# Altium integrated library NSC Converter Data Acquisition System.IntLib: 13 symbols
Pins are listed as number, name and electrical type; pins without a type are passive.

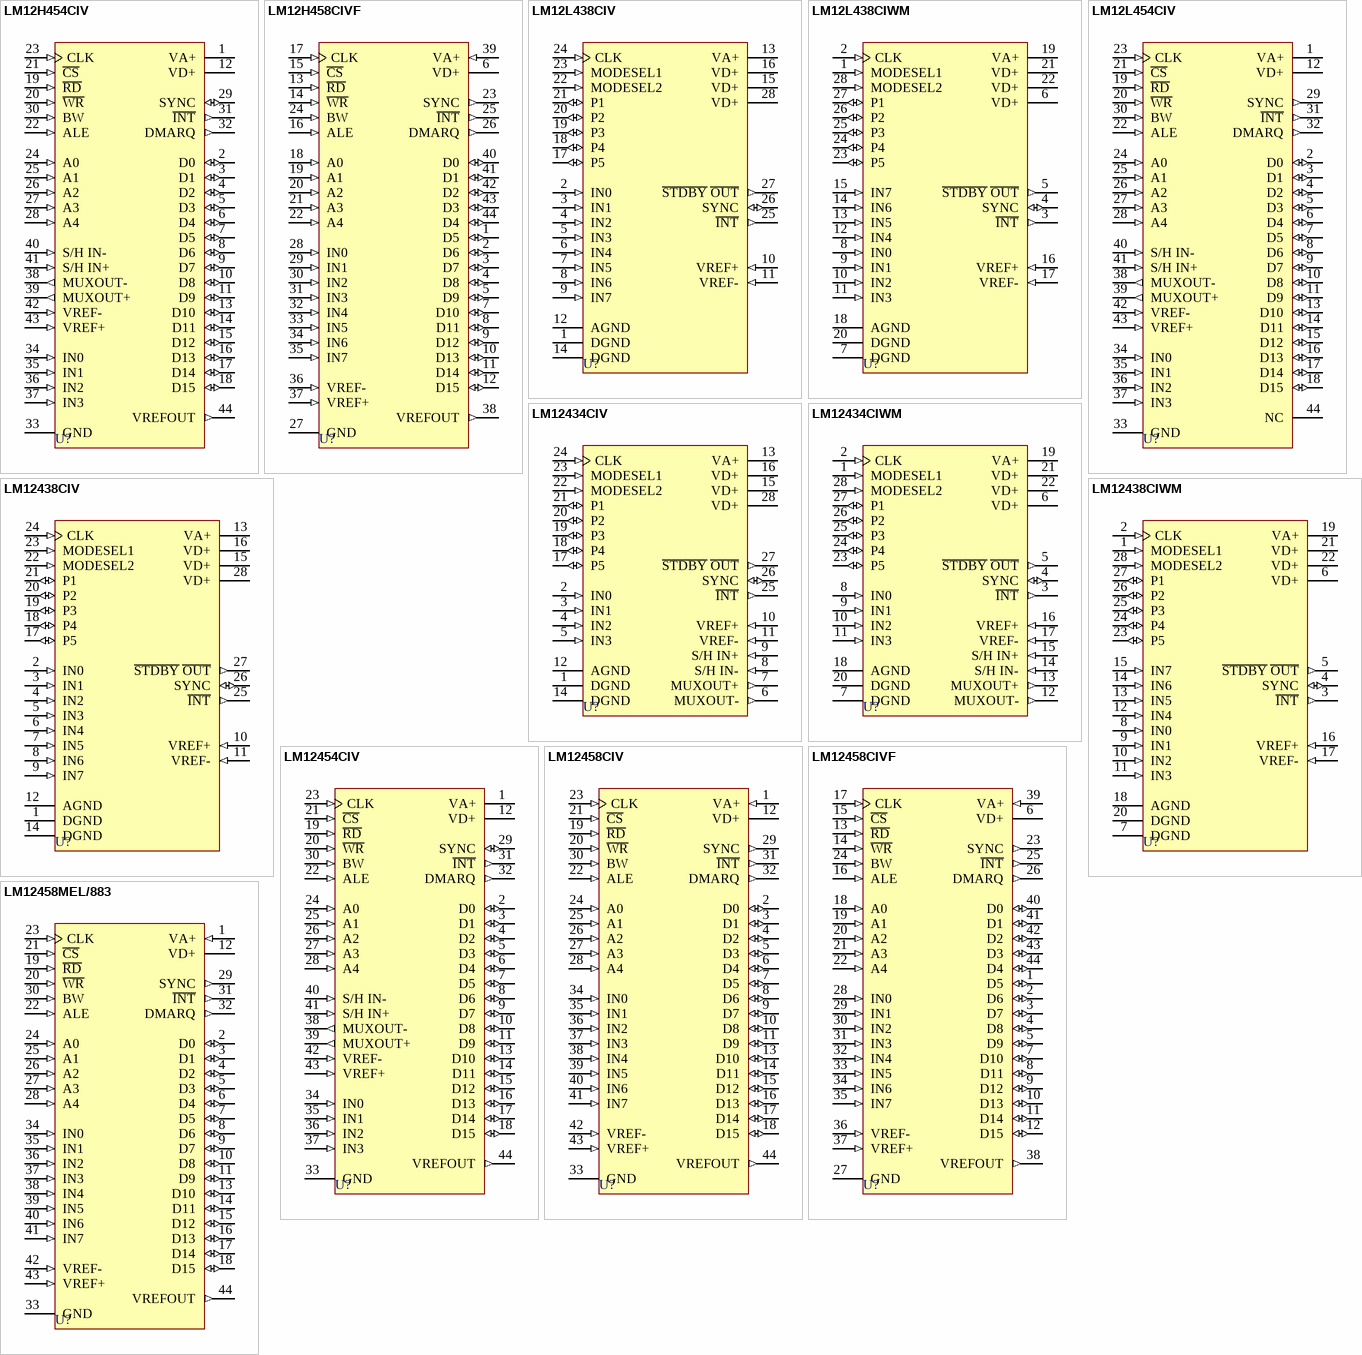
[diagram p0: symbols LM12H454CIV to LM12458MEL/883]

## LM12H454CIV
designator U?
12-Bit Plus Sign Data Acquisition System with Self-Calibration; ComponentAvailability: Obsolete; Published: 15-Apr-2002; LatestRevisionDate: 13-Apr-2006; LatestRevisionNote: IPC-7351 Footprint Added.; DatasheetVersion: Jul-1995; PackageVersion: 2000; PackageReference: V44A; Publisher: Altium Limited; PackageDescription: 44-Pin Leaded Chip Carrier 1.27 mm Pitch; Code_IPC: PLCC-44; ComponentLink1Description: Manufacturer Link; ComponentLink1URL: http://www.national.com/; ComponentLink2Description: Discontinuation Notice; ComponentLink2URL: http://www.national.com/obs/obsolescence.txt
footprint V44A_N (Leaded Chip Carrier, 44-Leads, Body 16.6x16.6mm, Pitch 1.27mm, IPC Medium Density)
footprint V44A_L (Leaded Chip Carrier, 44-Leads, Body 16.6x16.6mm, Pitch 1.27mm, IPC High Density)
footprint V44A_M (Leaded Chip Carrier, 44-Leads, Body 16.6x16.6mm, Pitch 1.27mm, IPC Low Density)
3D model LM12H454-V44A (44-Pin Leaded Chip Carrier 1.27 mm Pitch)
pins: 1 VA+ (power), 2 D0 (io), 3 D1 (io), 4 D2 (io), 5 D3 (io), 6 D4 (io), 7 D5 (io), 8 D6 (io), 9 D7 (io), 10 D8 (io), 11 D9 (io), 12 VD+ (power), 13 D10 (io), 14 D11 (io), 15 D12 (io), 16 D13 (io), 17 D14 (io), 18 D15 (io), 19 ~{RD} (in), 20 ~{WR} (in), 21 ~{CS} (in), 22 ALE (in), 23 CLK (in), 24 A0 (in), 25 A1 (in), 26 A2 (in), 27 A3 (in), 28 A4 (in), 29 SYNC (io), 30 BW (in), 31 ~{INT} (out), 32 DMARQ (out), 33 GND (power), 34 IN0 (in), 35 IN1 (in), 36 IN2 (in), 37 IN3 (in), 38 MUXOUT- (out), 39 MUXOUT+ (out), 40 S/H IN- (in), 41 S/H IN+ (in), 42 VREF- (in), 43 VREF+ (in), 44 VREFOUT (out)

## LM12H458CIVF
designator U?
12-Bit Plus Sign Data Acquisition System with Self-Calibration; Published: 15-Apr-2002; LatestRevisionDate: 13-Apr-2006; LatestRevisionNote: IPC-7351 Footprint Added.; DatasheetVersion: Jul-1999; PackageVersion: Jul-1995; PackageReference: VGZ44A; Publisher: Altium Limited; PackageDescription: 44-Pin Quad Flat Pack 0.8 mm Pitch; Code_JEDEC: MS-022-AB; Code_IPC: QFP80P1320X1320-44; ComponentLink1Description: Manufacturer Link; ComponentLink1URL: http://www.national.com/; ComponentLink2Description: Datasheet; ComponentLink2URL: http://www.national.com/ds.cgi/LM/LM12454.pdf; ComponentLink3Description: URL Link1; ComponentLink3URL: http://www.national.com/pf/LM/LM12454.html
footprint VGZ44A_N (QFP, 44-Leads, Body 10x10mm, Pitch 0.8mm, IPC Medium Density)
footprint VGZ44A_L (QFP, 44-Leads, Body 10x10mm, Pitch 0.8mm, IPC High Density)
footprint VGZ44A_M (QFP, 44-Leads, Body 10x10mm, Pitch 0.8mm, IPC Low Density)
3D model LM12H458-VGZ44A (44-Pin Quad Flat Pack 0.8 mm Pitch)
pins: 1 D5 (io), 2 D6 (io), 3 D7 (io), 4 D8 (io), 5 D9 (io), 6 VD+ (power), 7 D10 (io), 8 D11 (io), 9 D12 (io), 10 D13 (io), 11 D14 (io), 12 D15 (io), 13 ~{RD} (in), 14 ~{WR} (in), 15 ~{CS} (in), 16 ALE (in), 17 CLK (in), 18 A0 (in), 19 A1 (in), 20 A2 (in), 21 A3 (in), 22 A4 (in), 23 SYNC (out), 24 BW (in), 25 ~{INT} (out), 26 DMARQ (out), 27 GND (power), 28 IN0 (in), 29 IN1 (in), 30 IN2 (in), 31 IN3 (in), 32 IN4 (in), 33 IN5 (in), 34 IN6 (in), 35 IN7 (in), 36 VREF- (in), 37 VREF+ (in), 38 VREFOUT (out), 39 VA+ (in), 40 D0 (io), 41 D1 (io), 42 D2 (io), 43 D3 (io), 44 D4 (io)

## LM12L438CIV
designator U?
12-Bit Plus Sign Data Acquisition System with Serial I/O and Self-Calibration; ComponentAvailability: Obsolete; Published: 15-Apr-2002; LatestRevisionDate: 13-Apr-2006; LatestRevisionNote: IPC-7351 Footprint Added.; DatasheetVersion: Jul-1995; PackageVersion: 2000; PackageReference: V28A; Publisher: Altium Limited; PackageDescription: 28-Pin Leaded Chip Carrier 1.27 mm Pitch; Code_IPC: PLCC-28; ComponentLink1Description: Manufacturer Link; ComponentLink1URL: http://www.national.com/; ComponentLink2Description: Discontinuation Notice; ComponentLink2URL: http://www.national.com/obs/obsolescence.txt
footprint V28A_N (Leaded Chip Carrier, 28-Leads, Body 11.5x11.5mm, Pitch 1.27mm, IPC Medium Density)
footprint V28A_L (Leaded Chip Carrier, 28-Leads, Body 11.5x11.5mm, Pitch 1.27mm, IPC High Density)
footprint V28A_M (Leaded Chip Carrier, 28-Leads, Body 11.5x11.5mm, Pitch 1.27mm, IPC Low Density)
3D model LM12L438-V28A (28-Pin Leaded Chip Carrier 1.27 mm Pitch)
pins: 1 DGND (power), 2 IN0 (in), 3 IN1 (in), 4 IN2 (in), 5 IN3 (in), 6 IN4 (in), 7 IN5 (in), 8 IN6 (in), 9 IN7 (in), 10 VREF+ (in), 11 VREF- (in), 12 AGND (power), 13 VA+ (power), 14 DGND (power), 15 VD+ (power), 16 VD+ (power), 17 P5 (io), 18 P4 (io), 19 P3 (io), 20 P2 (io), 21 P1 (io), 22 MODESEL2 (in), 23 MODESEL1 (in), 24 CLK (in), 25 ~{INT} (out), 26 SYNC (io), 27 ~{STDBY} ~{OUT} (out), 28 VD+ (power)

## LM12L438CIWM
designator U?
12-Bit Plus Sign Data Acquisition System with Serial I/O and Self-Calibration; ComponentAvailability: Obsolete; Published: 15-Apr-2002; LatestRevisionDate: 13-Apr-2006; LatestRevisionNote: IPC-7351 Footprint Added.; DatasheetVersion: Jul-1995; PackageVersion: 2000; PackageReference: M28B; Publisher: Altium Limited; PackageDescription: 28-Pin Small Outline Integrated Circuit 1.27 mm Pitch; ComponentLink1Description: Manufacturer Link; ComponentLink1URL: http://www.national.com/; ComponentLink2Description: Discontinuation Notice; ComponentLink2URL: http://www.national.com/obs/obsolescence.txt
footprint M28B_N (SOIC, 28-Leads, Body 17.9x7.5mm, Pitch 1.27mm, IPC Medium Density)
footprint M28B_L (SOIC, 28-Leads, Body 17.9x7.5mm, Pitch 1.27mm, IPC High Density)
footprint M28B_M (SOIC, 28-Leads, Body 17.9x7.5mm, Pitch 1.27mm, IPC Low Density)
3D model M28B (28-Pin Small Outline Integrated Circuit 1.27 mm Pitch)
pins: 1 MODESEL1 (in), 2 CLK (in), 3 ~{INT} (out), 4 SYNC (io), 5 ~{STDBY} ~{OUT} (out), 6 VD+ (power), 7 DGND (power), 8 IN0 (in), 9 IN1 (in), 10 IN2 (in), 11 IN3 (in), 12 IN4 (in), 13 IN5 (in), 14 IN6 (in), 15 IN7 (in), 16 VREF+ (in), 17 VREF- (in), 18 AGND (power), 19 VA+ (power), 20 DGND (power), 21 VD+ (power), 22 VD+ (power), 23 P5 (io), 24 P4 (io), 25 P3 (io), 26 P2 (io), 27 P1 (io), 28 MODESEL2 (in)

## LM12L454CIV
designator U?
12-Bit Plus Sign Data Acquisition System with Self-Calibration; ComponentAvailability: Obsolete; Published: 15-Apr-2002; LatestRevisionDate: 13-Apr-2006; LatestRevisionNote: IPC-7351 Footprint Added.; PackageVersion: 2000; PackageReference: V44A; Publisher: Altium Limited; PackageDescription: 44-Pin Leaded Chip Carrier 1.27 mm Pitch; Code_IPC: PLCC-44; ComponentLink1Description: Manufacturer Link; ComponentLink1URL: http://www.national.com/; ComponentLink2Description: Discontinuation Notice; ComponentLink2URL: http://www.national.com/obs/obsolescence.txt
footprint V44A_N (Leaded Chip Carrier, 44-Leads, Body 16.6x16.6mm, Pitch 1.27mm, IPC Medium Density)
footprint V44A_L (Leaded Chip Carrier, 44-Leads, Body 16.6x16.6mm, Pitch 1.27mm, IPC High Density)
footprint V44A_M (Leaded Chip Carrier, 44-Leads, Body 16.6x16.6mm, Pitch 1.27mm, IPC Low Density)
3D model LM12L454-V44A (44-Pin Leaded Chip Carrier 1.27 mm Pitch)
pins: 1 VA+ (power), 2 D0 (io), 3 D1 (io), 4 D2 (io), 5 D3 (io), 6 D4 (io), 7 D5 (io), 8 D6 (io), 9 D7 (io), 10 D8 (io), 11 D9 (io), 12 VD+ (power), 13 D10 (io), 14 D11 (io), 15 D12 (io), 16 D13 (io), 17 D14 (io), 18 D15 (io), 19 ~{RD} (in), 20 ~{WR} (in), 21 ~{CS} (in), 22 ALE (in), 23 CLK (in), 24 A0 (in), 25 A1 (in), 26 A2 (in), 27 A3 (in), 28 A4 (in), 29 SYNC (out), 30 BW (in), 31 ~{INT} (out), 32 DMARQ (out), 33 GND (power), 34 IN0 (in), 35 IN1 (in), 36 IN2 (in), 37 IN3 (in), 38 MUXOUT- (out), 39 MUXOUT+ (out), 40 S/H IN- (in), 41 S/H IN+ (in), 42 VREF- (in), 43 VREF+ (in), 44 NC

## LM12434CIV
designator U?
12-Bit Plus Sign Data Acquisition System with Serial I/O and Self-Calibration; ComponentAvailability: Obsolete; Published: 15-Apr-2002; LatestRevisionDate: 13-Apr-2006; LatestRevisionNote: IPC-7351 Footprint Added.; DatasheetVersion: Jul-1995; PackageVersion: 2000; PackageReference: V28A; Publisher: Altium Limited; PackageDescription: 28-Pin Leaded Chip Carrier 1.27 mm Pitch; Code_IPC: PLCC-28; ComponentLink1Description: Manufacturer Link; ComponentLink1URL: http://www.national.com/; ComponentLink2Description: Discontinuation Notice; ComponentLink2URL: http://www.national.com/obs/obsolescence.txt
footprint V28A_N (Leaded Chip Carrier, 28-Leads, Body 11.5x11.5mm, Pitch 1.27mm, IPC Medium Density)
footprint V28A_L (Leaded Chip Carrier, 28-Leads, Body 11.5x11.5mm, Pitch 1.27mm, IPC High Density)
footprint V28A_M (Leaded Chip Carrier, 28-Leads, Body 11.5x11.5mm, Pitch 1.27mm, IPC Low Density)
3D model LM12434-V28A (28-Pin Leaded Chip Carrier 1.27 mm Pitch)
pins: 1 DGND (power), 2 IN0 (in), 3 IN1 (in), 4 IN2 (in), 5 IN3 (in), 6 MUXOUT- (out), 7 MUXOUT+ (out), 8 S/H IN- (in), 9 S/H IN+ (in), 10 VREF+ (in), 11 VREF- (in), 12 AGND (power), 13 VA+ (power), 14 DGND (power), 15 VD+ (power), 16 VD+ (power), 17 P5 (io), 18 P4 (io), 19 P3 (io), 20 P2 (io), 21 P1 (io), 22 MODESEL2 (in), 23 MODESEL1 (in), 24 CLK (in), 25 ~{INT} (out), 26 SYNC (io), 27 ~{STDBY} ~{OUT} (out), 28 VD+ (power)

## LM12434CIWM
designator U?
12-Bit Plus Sign Data Acquisition System with Serial I/O and Self-Calibration; ComponentAvailability: Obsolete; Published: 15-Apr-2002; LatestRevisionDate: 13-Apr-2006; LatestRevisionNote: IPC-7351 Footprint Added.; DatasheetVersion: Jul-1995; PackageVersion: 2000; PackageReference: M28B; Publisher: Altium Limited; PackageDescription: 28-Pin Small Outline Integrated Circuit 1.27 mm Pitch; ComponentLink1Description: Manufacturer Link; ComponentLink1URL: http://www.national.com/; ComponentLink2Description: Discontinuation Notice; ComponentLink2URL: http://www.national.com/obs/obsolescence.txt
footprint M28B_N (SOIC, 28-Leads, Body 17.9x7.5mm, Pitch 1.27mm, IPC Medium Density)
footprint M28B_L (SOIC, 28-Leads, Body 17.9x7.5mm, Pitch 1.27mm, IPC High Density)
footprint M28B_M (SOIC, 28-Leads, Body 17.9x7.5mm, Pitch 1.27mm, IPC Low Density)
3D model M28B (28-Pin Small Outline Integrated Circuit 1.27 mm Pitch)
pins: 1 MODESEL1 (in), 2 CLK (in), 3 ~{INT} (out), 4 SYNC (io), 5 ~{STDBY} ~{OUT} (out), 6 VD+ (power), 7 DGND (power), 8 IN0 (in), 9 IN1 (in), 10 IN2 (in), 11 IN3 (in), 12 MUXOUT- (out), 13 MUXOUT+ (out), 14 S/H IN- (in), 15 S/H IN+ (in), 16 VREF+ (in), 17 VREF- (in), 18 AGND (power), 19 VA+ (power), 20 DGND (power), 21 VD+ (power), 22 VD+ (power), 23 P5 (io), 24 P4 (io), 25 P3 (io), 26 P2 (io), 27 P1 (io), 28 MODESEL2 (in)

## LM12438CIV
designator U?
12-Bit Plus Sign Data Acquisition System with Serial I/O and Self-Calibration; ComponentAvailability: Obsolete; Published: 15-Apr-2002; LatestRevisionDate: 13-Apr-2006; LatestRevisionNote: IPC-7351 Footprint Added.; DatasheetVersion: Jul-1995; PackageVersion: 2000; PackageReference: V28A; Publisher: Altium Limited; PackageDescription: 28-Pin Leaded Chip Carrier 1.27 mm Pitch; Code_IPC: PLCC-28; ComponentLink1Description: Manufacturer Link; ComponentLink1URL: http://www.national.com/; ComponentLink2Description: Discontinuation Notice; ComponentLink2URL: http://www.national.com/obs/obsolescence.txt
footprint V28A_N (Leaded Chip Carrier, 28-Leads, Body 11.5x11.5mm, Pitch 1.27mm, IPC Medium Density)
footprint V28A_L (Leaded Chip Carrier, 28-Leads, Body 11.5x11.5mm, Pitch 1.27mm, IPC High Density)
footprint V28A_M (Leaded Chip Carrier, 28-Leads, Body 11.5x11.5mm, Pitch 1.27mm, IPC Low Density)
3D model LM12438-V28A (28-Pin Leaded Chip Carrier 1.27 mm Pitch)
pins: 1 DGND (power), 2 IN0 (in), 3 IN1 (in), 4 IN2 (in), 5 IN3 (in), 6 IN4 (in), 7 IN5 (in), 8 IN6 (in), 9 IN7 (in), 10 VREF+ (in), 11 VREF- (in), 12 AGND (power), 13 VA+ (power), 14 DGND (power), 15 VD+ (power), 16 VD+ (power), 17 P5 (io), 18 P4 (io), 19 P3 (io), 20 P2 (io), 21 P1 (io), 22 MODESEL2 (in), 23 MODESEL1 (in), 24 CLK (in), 25 ~{INT} (out), 26 SYNC (io), 27 ~{STDBY} ~{OUT} (out), 28 VD+ (power)

## LM12438CIWM
designator U?
12-Bit Plus Sign Data Acquisition System with Serial I/O and Self-Calibration; ComponentAvailability: Obsolete; Published: 15-Apr-2002; LatestRevisionDate: 13-Apr-2006; LatestRevisionNote: IPC-7351 Footprint Added.; DatasheetVersion: Jul-1995; PackageVersion: 2000; PackageReference: M28B; Publisher: Altium Limited; PackageDescription: 28-Pin Small Outline Integrated Circuit 1.27 mm Pitch; ComponentLink1Description: Manufacturer Link; ComponentLink1URL: http://www.national.com/; ComponentLink2Description: Discontinuation Notice; ComponentLink2URL: http://www.national.com/obs/obsolescence.txt
footprint M28B_N (SOIC, 28-Leads, Body 17.9x7.5mm, Pitch 1.27mm, IPC Medium Density)
footprint M28B_L (SOIC, 28-Leads, Body 17.9x7.5mm, Pitch 1.27mm, IPC High Density)
footprint M28B_M (SOIC, 28-Leads, Body 17.9x7.5mm, Pitch 1.27mm, IPC Low Density)
3D model M28B (28-Pin Small Outline Integrated Circuit 1.27 mm Pitch)
pins: 1 MODESEL1 (in), 2 CLK (in), 3 ~{INT} (out), 4 SYNC (io), 5 ~{STDBY} ~{OUT} (out), 6 VD+ (power), 7 DGND (power), 8 IN0 (in), 9 IN1 (in), 10 IN2 (in), 11 IN3 (in), 12 IN4 (in), 13 IN5 (in), 14 IN6 (in), 15 IN7 (in), 16 VREF+ (in), 17 VREF- (in), 18 AGND (power), 19 VA+ (power), 20 DGND (power), 21 VD+ (power), 22 VD+ (power), 23 P5 (io), 24 P4 (io), 25 P3 (io), 26 P2 (io), 27 P1 (io), 28 MODESEL2 (in)

## LM12454CIV
designator U?
12-Bit Plus Sign Data Acquisition System with Self-Calibration; ComponentAvailability: Obsolete; Published: 15-Apr-2002; LatestRevisionDate: 13-Apr-2006; LatestRevisionNote: IPC-7351 Footprint Added.; DatasheetVersion: Jul-1999; PackageVersion: 2000; PackageReference: V44A; Publisher: Altium Limited; PackageDescription: 44-Pin Leaded Chip Carrier 1.27 mm Pitch; Code_IPC: PLCC-44; ComponentLink1Description: Manufacturer Link; ComponentLink1URL: http://www.national.com/; ComponentLink2Description: Datasheet; ComponentLink2URL: http://www.national.com/ds.cgi/LM/LM12454.pdf; ComponentLink3Description: URL Link1; ComponentLink3URL: http://www.national.com/pf/LM/LM12454.html
footprint V44A_N (Leaded Chip Carrier, 44-Leads, Body 16.6x16.6mm, Pitch 1.27mm, IPC Medium Density)
footprint V44A_L (Leaded Chip Carrier, 44-Leads, Body 16.6x16.6mm, Pitch 1.27mm, IPC High Density)
footprint V44A_M (Leaded Chip Carrier, 44-Leads, Body 16.6x16.6mm, Pitch 1.27mm, IPC Low Density)
3D model LM12454-V44A (44-Pin Leaded Chip Carrier 1.27 mm Pitch)
pins: 1 VA+ (power), 2 D0 (io), 3 D1 (io), 4 D2 (io), 5 D3 (io), 6 D4 (io), 7 D5 (io), 8 D6 (io), 9 D7 (io), 10 D8 (io), 11 D9 (io), 12 VD+ (power), 13 D10 (io), 14 D11 (io), 15 D12 (io), 16 D13 (io), 17 D14 (io), 18 D15 (io), 19 ~{RD} (in), 20 ~{WR} (in), 21 ~{CS} (in), 22 ALE (in), 23 CLK (in), 24 A0 (in), 25 A1 (in), 26 A2 (in), 27 A3 (in), 28 A4 (in), 29 SYNC (io), 30 BW (in), 31 ~{INT} (out), 32 DMARQ (out), 33 GND (power), 34 IN0 (in), 35 IN1 (in), 36 IN2 (in), 37 IN3 (in), 38 MUXOUT- (out), 39 MUXOUT+ (out), 40 S/H IN- (in), 41 S/H IN+ (in), 42 VREF- (in), 43 VREF+ (in), 44 VREFOUT (out)

## LM12458CIV
designator U?
12-Bit Plus Sign Data Acquisition System with Self-Calibration; Published: 15-Apr-2002; LatestRevisionDate: 13-Apr-2006; LatestRevisionNote: IPC-7351 Footprint Added.; DatasheetVersion: Jul-1999; PackageVersion: 2000; PackageReference: V44A; Publisher: Altium Limited; PackageDescription: 44-Pin Leaded Chip Carrier 1.27 mm Pitch; Code_IPC: PLCC-44; ComponentLink1Description: Manufacturer Link; ComponentLink1URL: http://www.national.com/; ComponentLink2Description: Datasheet; ComponentLink2URL: http://www.national.com/ds.cgi/LM/LM12454.pdf; ComponentLink3Description: URL Link1; ComponentLink3URL: http://www.national.com/pf/LM/LM12458.html
footprint V44A_N (Leaded Chip Carrier, 44-Leads, Body 16.6x16.6mm, Pitch 1.27mm, IPC Medium Density)
footprint V44A_L (Leaded Chip Carrier, 44-Leads, Body 16.6x16.6mm, Pitch 1.27mm, IPC High Density)
footprint V44A_M (Leaded Chip Carrier, 44-Leads, Body 16.6x16.6mm, Pitch 1.27mm, IPC Low Density)
3D model LM12458-V44A (44-Pin Leaded Chip Carrier 1.27 mm Pitch)
pins: 1 VA+ (in), 2 D0 (io), 3 D1 (io), 4 D2 (io), 5 D3 (io), 6 D4 (io), 7 D5 (io), 8 D6 (io), 9 D7 (io), 10 D8 (io), 11 D9 (io), 12 VD+ (power), 13 D10 (io), 14 D11 (io), 15 D12 (io), 16 D13 (io), 17 D14 (io), 18 D15 (io), 19 ~{RD} (in), 20 ~{WR} (in), 21 ~{CS} (in), 22 ALE (in), 23 CLK (in), 24 A0 (in), 25 A1 (in), 26 A2 (in), 27 A3 (in), 28 A4 (in), 29 SYNC (out), 30 BW (in), 31 ~{INT} (out), 32 DMARQ (out), 33 GND (power), 34 IN0 (in), 35 IN1 (in), 36 IN2 (in), 37 IN3 (in), 38 IN4 (in), 39 IN5 (in), 40 IN6 (in), 41 IN7 (in), 42 VREF- (in), 43 VREF+ (in), 44 VREFOUT (out)

## LM12458CIVF
designator U?
12-Bit Plus Sign Data Acquisition System with Self-Calibration; Published: 15-Apr-2002; LatestRevisionDate: 13-Apr-2006; LatestRevisionNote: IPC-7351 Footprint Added.; DatasheetVersion: Jul-1999; PackageVersion: Jul-1995; PackageReference: VGZ44A; Publisher: Altium Limited; PackageDescription: 44-Pin Quad Flat Pack 0.8 mm Pitch; Code_JEDEC: MS-022-AB; Code_IPC: QFP80P1320X1320-44; ComponentLink1Description: Manufacturer Link; ComponentLink1URL: http://www.national.com/; ComponentLink2Description: Datasheet; ComponentLink2URL: http://www.national.com/ds.cgi/LM/LM12454.pdf; ComponentLink3Description: URL Link1; ComponentLink3URL: http://www.national.com/pf/LM/LM12458.html
footprint VGZ44A_N (QFP, 44-Leads, Body 10x10mm, Pitch 0.8mm, IPC Medium Density)
footprint VGZ44A_L (QFP, 44-Leads, Body 10x10mm, Pitch 0.8mm, IPC High Density)
footprint VGZ44A_M (QFP, 44-Leads, Body 10x10mm, Pitch 0.8mm, IPC Low Density)
3D model LM12458-VGZ44A (44-Pin Quad Flat Pack 0.8 mm Pitch)
pins: 1 D5 (io), 2 D6 (io), 3 D7 (io), 4 D8 (io), 5 D9 (io), 6 VD+ (power), 7 D10 (io), 8 D11 (io), 9 D12 (io), 10 D13 (io), 11 D14 (io), 12 D15 (io), 13 ~{RD} (in), 14 ~{WR} (in), 15 ~{CS} (in), 16 ALE (in), 17 CLK (in), 18 A0 (in), 19 A1 (in), 20 A2 (in), 21 A3 (in), 22 A4 (in), 23 SYNC (out), 24 BW (in), 25 ~{INT} (out), 26 DMARQ (out), 27 GND (power), 28 IN0 (in), 29 IN1 (in), 30 IN2 (in), 31 IN3 (in), 32 IN4 (in), 33 IN5 (in), 34 IN6 (in), 35 IN7 (in), 36 VREF- (in), 37 VREF+ (in), 38 VREFOUT (out), 39 VA+ (in), 40 D0 (io), 41 D1 (io), 42 D2 (io), 43 D3 (io), 44 D4 (io)

## LM12458MEL/883
designator U?
12-Bit Plus Sign Data Acquisition System with Self-Calibration; ComponentAvailability: Obsolete; Published: 15-Apr-2002; LatestRevisionDate: 13-Apr-2006; LatestRevisionNote: IPC-7351 Footprint Added.; DatasheetVersion: Jul-1999; PackageVersion: 2000; PackageReference: EL44A; Publisher: Altium Limited; PackageDescription: 44-Pin Leaded Chip Carrier 1.27 mm Pitch; Code_IPC: PLCC-44; ComponentLink1Description: Manufacturer Link; ComponentLink1URL: http://www.national.com/; ComponentLink2Description: Datasheet; ComponentLink2URL: http://www.national.com/ds.cgi/LM/LM12454.pdf; ComponentLink3Description: Discontinuation Notice; ComponentLink3URL: http://www.national.com/obs/obsolescence.txt; ComponentLink4Description: URL Link1; ComponentLink4URL: http://www.national.com/pf/LM/LM12454.html
footprint EL44A_N (Leaded Chip Carrier, 44-Leads, Body 16.5x16.5mm, Pitch 1.27mm, IPC Medium Density)
footprint EL44A_L (Leaded Chip Carrier, 44-Leads, Body 16.5x16.5mm, Pitch 1.27mm, IPC High Density)
footprint EL44A_M (Leaded Chip Carrier, 44-Leads, Body 16.5x16.5mm, Pitch 1.27mm, IPC Low Density)
3D model LM12458MEL-EL44A (44-Pin Leaded Chip Carrier 1.27 mm Pitch)
pins: 1 VA+ (in), 2 D0 (io), 3 D1 (io), 4 D2 (io), 5 D3 (io), 6 D4 (io), 7 D5 (io), 8 D6 (io), 9 D7 (io), 10 D8 (io), 11 D9 (io), 12 VD+ (power), 13 D10 (io), 14 D11 (io), 15 D12 (io), 16 D13 (io), 17 D14 (io), 18 D15 (io), 19 ~{RD} (in), 20 ~{WR} (in), 21 ~{CS} (in), 22 ALE (in), 23 CLK (in), 24 A0 (in), 25 A1 (in), 26 A2 (in), 27 A3 (in), 28 A4 (in), 29 SYNC (out), 30 BW (in), 31 ~{INT} (out), 32 DMARQ (out), 33 GND (power), 34 IN0 (in), 35 IN1 (in), 36 IN2 (in), 37 IN3 (in), 38 IN4 (in), 39 IN5 (in), 40 IN6 (in), 41 IN7 (in), 42 VREF- (in), 43 VREF+ (in), 44 VREFOUT (out)